# Altium footprint library P Mos - SSM3J328R.PcbLib: 3 footprints
Each footprint in its own frame and in the unit in brackets; x right, y up, seen from the top. Pads: shape width x height; smd on the part's side, far side on the other; paste and mask are expansions set on the pad; w line width, h text height; cw(c..) or ccw(c..) is an arc to the next point about the centre after c.
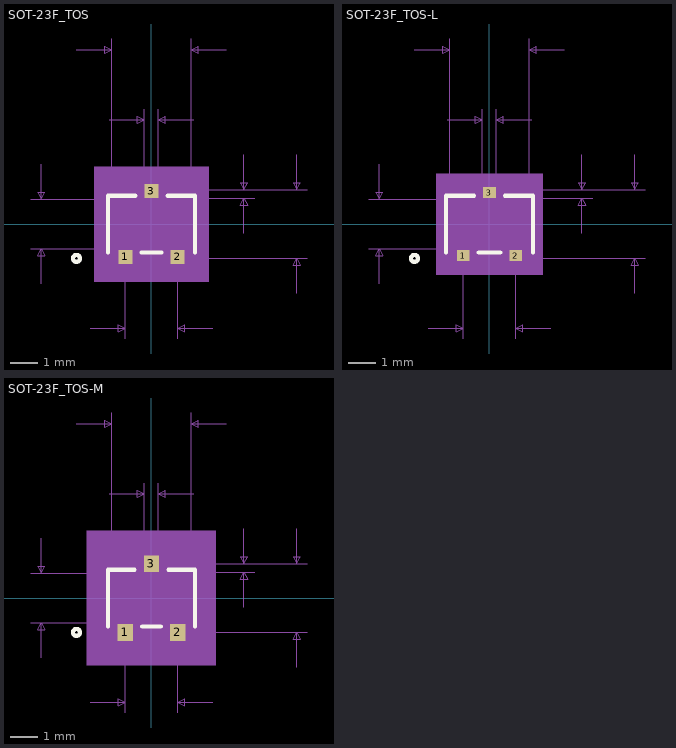
[diagram p0: the footprints below, top view; thin cyan lines are the x and y axes]

## SOT-23F_TOS [mil]
pads (3):
  rect 20x20 smd paste+0 mask+0: 1(-37.4,-47) 2(37.4,-47) 3(0,47)
Top Overlay:
  circle w6: c-107,-49 r5
  lines w6: -62,-40.5 -62,40.5 -23.1,40.5 ; -14.3,-40.5 14.3,-40.5 ; 23.1,40.5 62,40.5 62,-40.5
Mechanical 5:
  region: -82,82 82,82 82,-82 -82,-82
Mechanical 7:
  lines w1: -172,-35.5 0,-35.5 ; -172,35.5 0,35.5 ; -157,-85.5 -157,-35.5 ; -157,85.5 -157,35.5 ; -107,249 -57,249 ; -87.4,-149 -37.4,-149 ; -60,149 -10,149 ; -57,35.5 -57,264 ; -37.4,-164 -37.4,-49 ; -10,49 -10,164 ; 0,-49 222,-49 ; 0,37 147,37 ; 10,49 10,164 ; 37.4,-164 37.4,-49 ; 57,35.5 57,264 ; 60,149 10,149 ; 87.4,-149 37.4,-149 ; 107,249 57,249 ; 132,-13 132,37 ; 132,99 132,49 ; 147,49 0,49 222,49 ; 207,-99 207,-49 ; 207,99 207,49 ; -157,-35.5 -152,-45.5 -162,-45.5 -157,-35.5 ; -157,35.5 -152,45.5 -162,45.5 -157,35.5 ; -57,249 -67,244 -67,254 -57,249 ; -37.4,-149 -47.4,-154 -47.4,-144 -37.4,-149 ; -10,149 -20,144 -20,154 -10,149 ; 10,149 20,144 20,154 10,149 ; 37.4,-149 47.4,-154 47.4,-144 37.4,-149 ; 57,249 67,244 67,254 57,249 ; 132,37 137,27 127,27 132,37 ; 132,49 137,59 127,59 132,49 ; 207,-49 212,-59 202,-59 207,-49 ; 207,49 212,59 202,59 207,49
  text "0.071in/1.803mm" at -364.5,-12.5 h25
  text "0.114in/2.896mm" at -93.75,269 h25
  text "0.02in/0.508mm" at -87.5,169 h25
  text "0.075in/1.9mm" at -81.25,-194 h25
  text "0.012in/0.305mm" at 152,30.5 h25
  text "0.098in/2.489mm" at 227,-12.5 h25
  text "Alt 2 Padstyle: OX90Y60D30P" at -337.5,-532 h50
  text "Alt 1 Padstyle: OX60Y90D30P" at -337.5,-457 h50
  text "Bottom Padstyle: RX20Y20D0T" at -337.5,-382 h50
  text "Top Padstyle: RX20Y20D0T" at -300,-307 h50
Mechanical 13:
  circle w0: c-47,-25.5 r5
  lines w1: -57,-35.5 -57,35.5 57,35.5 57,-35.5 -57,-35.5 ; -47.4,-49 -27.4,-49 -27.4,-35.5 -47.4,-35.5 -47.4,-49 ; -10,35.5 -10,49 10,49 10,35.5 -10,35.5 ; 27.4,-49 47.4,-49 47.4,-35.5 27.4,-35.5 27.4,-49
Mechanical 15:
  region: 57,-35.5 -57,-35.5 -57,35.5 57,35.5
  region: -67,-45.5 -67,45.5 -20,45.5 -20,67 20,67 20,45.5 67,45.5 67,-45.5 57.4,-45.5 57.4,-67 -57.4,-67 -57.4,-45.5
  lines w6: -67,-45.5 -57.4,-45.5 -57.4,-67 57.4,-67 57.4,-45.5 67,-45.5 67,45.5 20,45.5 20,67 -20,67 -20,45.5 -67,45.5 -67,-45.5
3D body: height 10, standoff 0, extent 0,0 10,10

## SOT-23F_TOS-L [mil]
pads (3):
  rect 18x16 smd paste+0 mask+0: 1(-37.4,-45) 2(37.4,-45) 3(0,45)
Top Overlay:
  circle w6: c-107,-49 r5
  lines w6: -62,-40.5 -62,40.5 -22.1,40.5 ; -15.3,-40.5 15.3,-40.5 ; 22.1,40.5 62,40.5 62,-40.5
Mechanical 5:
  region: -76,72 76,72 76,-72 -76,-72
Mechanical 7:
  lines w1: -172,-35.5 0,-35.5 ; -172,35.5 0,35.5 ; -157,-85.5 -157,-35.5 ; -157,85.5 -157,35.5 ; -107,249 -57,249 ; -87.4,-149 -37.4,-149 ; -60,149 -10,149 ; -57,35.5 -57,264 ; -37.4,-164 -37.4,-49 ; -10,49 -10,164 ; 0,-49 222,-49 ; 0,37 147,37 ; 10,49 10,164 ; 37.4,-164 37.4,-49 ; 57,35.5 57,264 ; 60,149 10,149 ; 87.4,-149 37.4,-149 ; 107,249 57,249 ; 132,-13 132,37 ; 132,99 132,49 ; 147,49 0,49 222,49 ; 207,-99 207,-49 ; 207,99 207,49 ; -157,-35.5 -152,-45.5 -162,-45.5 -157,-35.5 ; -157,35.5 -152,45.5 -162,45.5 -157,35.5 ; -57,249 -67,244 -67,254 -57,249 ; -37.4,-149 -47.4,-154 -47.4,-144 -37.4,-149 ; -10,149 -20,144 -20,154 -10,149 ; 10,149 20,144 20,154 10,149 ; 37.4,-149 47.4,-154 47.4,-144 37.4,-149 ; 57,249 67,244 67,254 57,249 ; 132,37 137,27 127,27 132,37 ; 132,49 137,59 127,59 132,49 ; 207,-49 212,-59 202,-59 207,-49 ; 207,49 212,59 202,59 207,49
  text "0.071in/1.803mm" at -364.5,-12.5 h25
  text "0.114in/2.896mm" at -93.75,269 h25
  text "0.02in/0.508mm" at -87.5,169 h25
  text "0.075in/1.9mm" at -81.25,-194 h25
  text "0.012in/0.305mm" at 152,30.5 h25
  text "0.098in/2.489mm" at 227,-12.5 h25
  text "Alt 2 Padstyle: OX90Y60D30P" at -337.5,-528 h50
  text "Alt 1 Padstyle: OX60Y90D30P" at -337.5,-453 h50
  text "Bottom Padstyle: RX18Y16D0T" at -337.5,-378 h50
  text "Top Padstyle: RX18Y16D0T" at -300,-303 h50
Mechanical 13:
  circle w0: c-47,-25.5 r5
  lines w1: -57,-35.5 -57,35.5 57,35.5 57,-35.5 -57,-35.5 ; -47.4,-49 -27.4,-49 -27.4,-35.5 -47.4,-35.5 -47.4,-49 ; -10,35.5 -10,49 10,49 10,35.5 -10,35.5 ; 27.4,-49 47.4,-49 47.4,-35.5 27.4,-35.5 27.4,-49
Mechanical 15:
  region: 57,-35.5 -57,-35.5 -57,35.5 57,35.5
  region: -61,-39.5 -61,39.5 -14,39.5 -14,57 14,57 14,39.5 61,39.5 61,-39.5 51.4,-39.5 51.4,-57 -51.4,-57 -51.4,-39.5
  lines w6: -61,-39.5 -50.4,-39.5 -50.4,-57 50.4,-57 50.4,-39.5 61,-39.5 61,39.5 13,39.5 13,57 -13,57 -13,39.5 -61,39.5 -61,-39.5
3D body: height 10, standoff 0, extent 0,0 10,10

## SOT-23F_TOS-M [mil]
pads (3):
  rect 22x24 smd paste+0 mask+0: 1(-37.4,-49) 2(37.4,-49) 3(0,49)
Top Overlay:
  circle w6: c-107,-49 r5
  lines w6: -62,-40.5 -62,40.5 -24.1,40.5 ; -13.3,-40.5 13.3,-40.5 ; 24.1,40.5 62,40.5 62,-40.5
Mechanical 5:
  region: -92,96 92,96 92,-96 -92,-96
Mechanical 7:
  lines w1: -172,-35.5 0,-35.5 ; -172,35.5 0,35.5 ; -157,-85.5 -157,-35.5 ; -157,85.5 -157,35.5 ; -107,249 -57,249 ; -87.4,-149 -37.4,-149 ; -60,149 -10,149 ; -57,35.5 -57,264 ; -37.4,-164 -37.4,-49 ; -10,49 -10,164 ; 0,-49 222,-49 ; 0,37 147,37 ; 10,49 10,164 ; 37.4,-164 37.4,-49 ; 57,35.5 57,264 ; 60,149 10,149 ; 87.4,-149 37.4,-149 ; 107,249 57,249 ; 132,-13 132,37 ; 132,99 132,49 ; 147,49 0,49 222,49 ; 207,-99 207,-49 ; 207,99 207,49 ; -157,-35.5 -152,-45.5 -162,-45.5 -157,-35.5 ; -157,35.5 -152,45.5 -162,45.5 -157,35.5 ; -57,249 -67,244 -67,254 -57,249 ; -37.4,-149 -47.4,-154 -47.4,-144 -37.4,-149 ; -10,149 -20,144 -20,154 -10,149 ; 10,149 20,144 20,154 10,149 ; 37.4,-149 47.4,-154 47.4,-144 37.4,-149 ; 57,249 67,244 67,254 57,249 ; 132,37 137,27 127,27 132,37 ; 132,49 137,59 127,59 132,49 ; 207,-49 212,-59 202,-59 207,-49 ; 207,49 212,59 202,59 207,49
  text "0.071in/1.803mm" at -364.5,-12.5 h25
  text "0.114in/2.896mm" at -93.75,269 h25
  text "0.02in/0.508mm" at -87.5,169 h25
  text "0.075in/1.9mm" at -81.25,-194 h25
  text "0.012in/0.305mm" at 152,30.5 h25
  text "0.098in/2.489mm" at 227,-12.5 h25
  text "Alt 2 Padstyle: OX90Y60D30P" at -337.5,-536 h50
  text "Alt 1 Padstyle: OX60Y90D30P" at -337.5,-461 h50
  text "Bottom Padstyle: RX22Y24D0T" at -337.5,-386 h50
  text "Top Padstyle: RX22Y24D0T" at -300,-311 h50
Mechanical 13:
  circle w0: c-47,-25.5 r5
  lines w1: -57,-35.5 -57,35.5 57,35.5 57,-35.5 -57,-35.5 ; -47.4,-49 -27.4,-49 -27.4,-35.5 -47.4,-35.5 -47.4,-49 ; -10,35.5 -10,49 10,49 10,35.5 -10,35.5 ; 27.4,-49 47.4,-49 47.4,-35.5 27.4,-35.5 27.4,-49
Mechanical 15:
  region: 57,-35.5 -57,-35.5 -57,35.5 57,35.5
  region: -77,-55.5 -77,55.5 -30,55.5 -30,81 30,81 30,55.5 77,55.5 77,-55.5 67.4,-55.5 67.4,-81 -67.4,-81 -67.4,-55.5
  lines w6: -77,-55.5 -68.4,-55.5 -68.4,-81 68.4,-81 68.4,-55.5 77,-55.5 77,55.5 31,55.5 31,81 -31,81 -31,55.5 -77,55.5 -77,-55.5
3D body "SOT-23F.STEP": height 31.5, standoff 0, extent -57.08,-47.24 57.09,47.25
3D body: height 10, standoff 0, extent 0,0 10,10